# Altium footprint library JST-SM06B-SRSS-TB_V.PcbLib: 1 footprints
Each footprint in its own frame and in the unit in brackets; x right, y up, seen from the top. Pads: shape width x height; smd on the part's side, far side on the other; paste and mask are expansions set on the pad; w line width, h text height; cw(c..) or ccw(c..) is an arc to the next point about the centre after c.
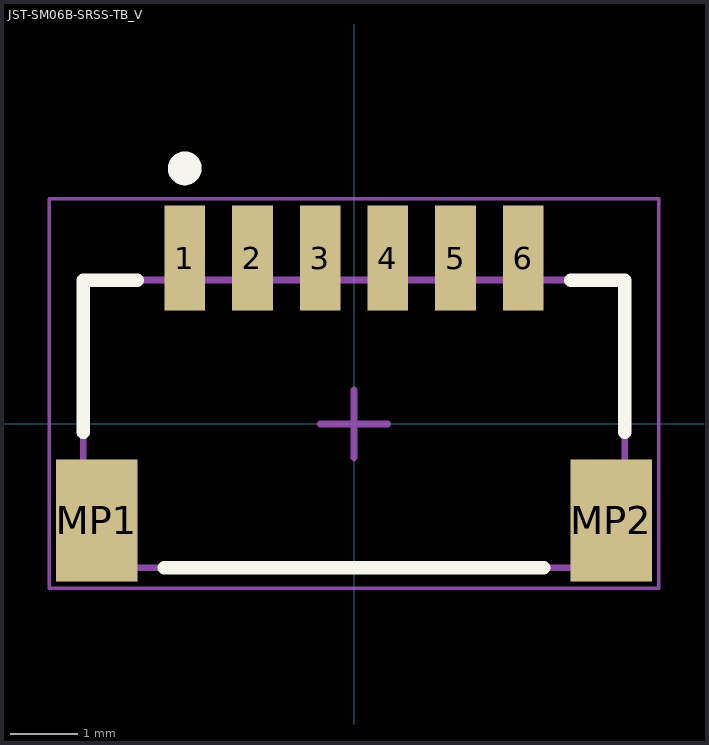
[diagram p0: the footprint, top view; thin cyan lines are the x and y axes]

## JST-SM06B-SRSS-TB_V [mm] "SMD, 6-Leads, Body 8x4.25mm, Pitch 1mm"
height 2.95
pads (8):
  rect 0.6x1.55 smd: 1(-2.5,2.45) 2(-1.5,2.45) 3(-0.5,2.45) 4(0.5,2.45) 5(1.5,2.45) 6(2.5,2.45)
  rect 1.2x1.8 smd: MP1(-3.8,-1.425) MP2(3.8,-1.425)
Top Overlay:
  circle w0.25: c-2.5,3.775 r0.125
  lines w0.2: -4,-0.125 -4,2.125 -3.2,2.125 ; -2.8,-2.125 2.8,-2.125 ; 3.2,2.125 4,2.125 4,-0.125
Mechanical 13:
  lines w0.1: -4,-2.125 4,-2.125 4,2.125 -4,2.125 -4,-2.125
Mechanical 15:
  lines w0.05: -4.5,-2.425 4.5,-2.425 4.5,3.325 -4.5,3.325 -4.5,-2.425
  lines w0.1: -0.5,0 0.5,0 ; 0,-0.5 0,0.5
3D body "SM06B-SRSS-TB.STEP": height 2.96, standoff 0, extent -4,-2.117 4,2.833